# Altium schematic symbol library schem5.SchLib: 20 symbols
Pins are listed as number, name and electrical type; pins without a type are passive.

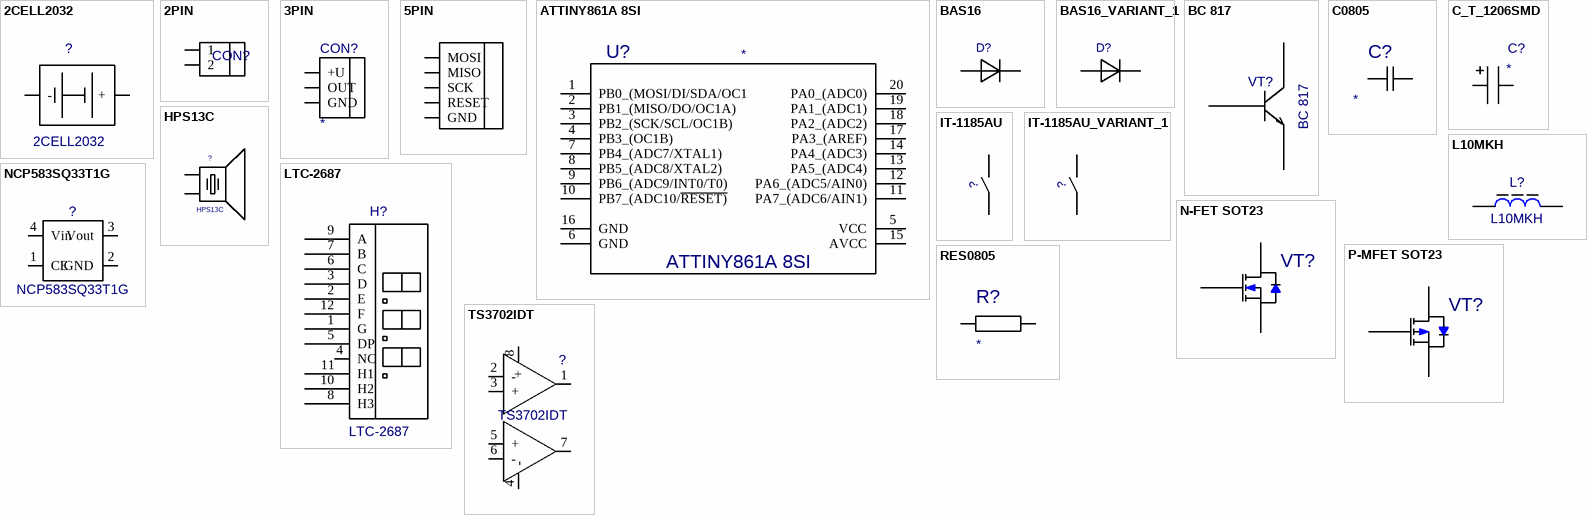
[diagram p0: symbols 2CELL2032 to TS3702IDT]

## 2CELL2032
designator ?
Value: *
footprint 2CELL2032
pins: 1 -, 2 +

## 2PIN
designator CON?  (value not drawn)
Value: *
footprint 2PIN
pins: 1, 2

## 3PIN
designator CON?  (value not drawn)
Value: *
footprint 3PIN
pins: 1 +U, 2 OUT, 3 GND

## 5PIN
designator CON?  (value not drawn)
Value: *
footprint 5PIN
pins: 1 MOSI, 2 MISO, 3 SCK, 4 RESET, 5 GND

## ATTINY861A 8SI
designator U?
Value: *
footprint ATTINY461A-8SI
pins: 1 PB0_(MOSI/DI/SDA/OC1, 2 PB1_(MISO/DO/OC1A), 3 PB2_(SCK/SCL/OC1B), 4 PB3_(OC1B), 5 VCC, 6 GND, 7 PB4_(ADC7/XTAL1), 8 PB5_(ADC8/XTAL2), 9 PB6_(ADC9/INT0/T0), 10 PB7_(ADC10/~{RESET)}, 11 PA7_(ADC6/AIN1), 12 PA6_(ADC5/AIN0), 13 PA5_(ADC4), 14 PA4_(ADC3), 15 AVCC, 16 GND, 17 PA3_(AREF), 18 PA2_(ADC2), 19 PA1_(ADC1), 20 PA0_(ADC0)

## BAS16
designator D?  (value not drawn)
Value: *
footprint SOT-23
pins: 1, 2

## BAS16_VARIANT_1
designator D?, comment BAS16  (value not drawn)
BAS16_VARIANT_1; Value: *
footprint SOT-23
pins: 1, 2

## BC 817
designator VT?
Value: *
footprint NPN PNP SOT23
pins: 1 B, 2 E, 3 C

## C0805
designator C?  (value not drawn)
Value: *
footprint C0805
pins: 1, 2

## C_T_1206SMD
designator C?  (value not drawn)
Value: *
footprint T1206
pins: 1, 2

## HPS13C
designator ?
Value: *
footprint HPS13C
pins: 1, 2

## IT-1185AU
designator ?  (value not drawn)
Value: *
footprint IT-1185AU
pins: 1, 2

## IT-1185AU_VARIANT_1
designator ?, comment IT-1185AU  (value not drawn)
IT-1185AU_VARIANT_1; Value: *
footprint IT-1185AU
pins: 1, 2

## L10MKH
designator L?
Value: *
footprint L1208
pins: 1, 2

## LTC-2687
designator H?
Value: *
footprint LTC-2687
pins: 1 G, 2 E, 3 D, 4 NC, 5 DP, 6 C, 7 B, 8 H3, 9 A, 10 H2, 11 H1, 12 F

## N-FET SOT23
designator VT?  (value not drawn)
Value: *
footprint PNP SOT23
pins: 1, 2, 3

## NCP583SQ33T1G
designator ?
Value: *
footprint SC 82AB
pins: 1 CE, 2 GND, 3 Vout, 4 Vin

## P-MFET SOT23
designator VT?  (value not drawn)
Value: *
footprint PNP SOT23
pins: 1, 2, 3

## RES0805
designator R?  (value not drawn)
Value: *
footprint ERA-0805
pins: 1, 2

## TS3702IDT
designator ?
Value: *
footprint SO8
pins: 1, 2 -, 3 +, 4 -, 5 +, 6 -, 7, 8 +